# EAGLE library part XCV400ES_BG560 (library xilinx-xcv)
xcv400es_bg560 edit this description Auto generated by make-symbol-device-package-bsdl.ulp Rev. 26 Source: xcv400es_bg560.bsd
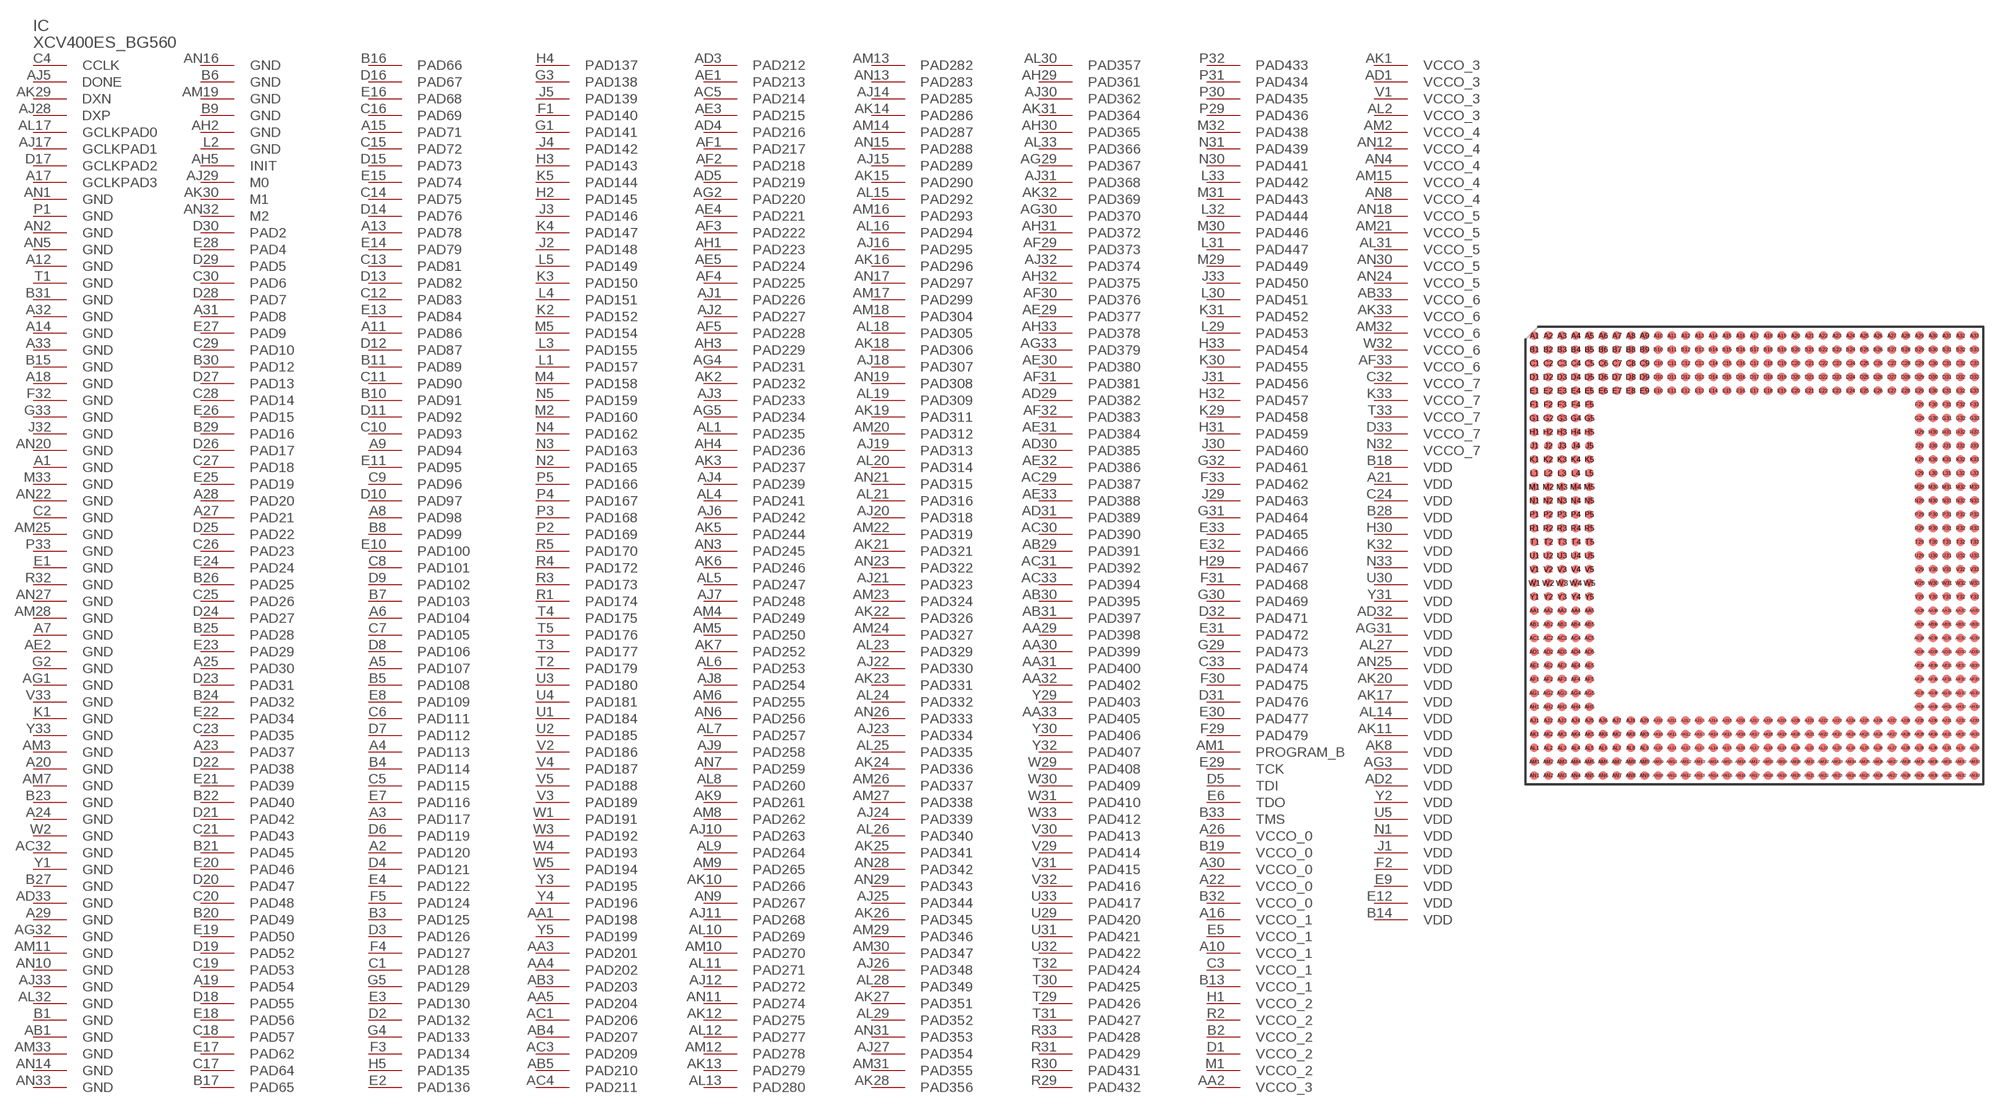
[diagram p103: symbol with the pads of BG560; footprint BG560]

Designator prefix IC

## XCV400ES_BG560  [BG560]
A1  GND  pwr
A2  PAD120
A3  PAD117
A4  PAD113
A5  PAD107
A6  PAD104
A7  GND  pwr
A8  PAD98
A9  PAD94
A10  VCCO_1  pwr
A11  PAD86
A12  GND  pwr
A13  PAD78
A14  GND  pwr
A15  PAD71
A16  VCCO_1  pwr
A17  GCLKPAD3  in
A18  GND  pwr
A19  PAD54
A20  GND  pwr
A21  VDD  pwr
A22  VCCO_0  pwr
A23  PAD37
A24  GND  pwr
A25  PAD30
A26  VCCO_0  pwr
A27  PAD21
A28  PAD20
A29  GND  pwr
A30  VCCO_0  pwr
A31  PAD8
A32  GND  pwr
A33  GND  pwr
AA1  PAD198
AA2  VCCO_3  pwr
AA3  PAD201
AA4  PAD202
AA5  PAD204
AA29  PAD398
AA30  PAD399
AA31  PAD400
AA32  PAD402
AA33  PAD405
AB1  GND  pwr
AB3  PAD203
AB4  PAD207
AB5  PAD210
AB29  PAD391
AB30  PAD395
AB31  PAD397
AB33  VCCO_6  pwr
AC1  PAD206
AC3  PAD209
AC4  PAD211
AC5  PAD214
AC29  PAD387
AC30  PAD390
AC31  PAD392
AC32  GND  pwr
AC33  PAD394
AD1  VCCO_3  pwr
AD2  VDD  pwr
AD3  PAD212
AD4  PAD216
AD5  PAD219
AD29  PAD382
AD30  PAD385
AD31  PAD389
AD32  VDD  pwr
AD33  GND  pwr
AE1  PAD213
AE2  GND  pwr
AE3  PAD215
AE4  PAD221
AE5  PAD224
AE29  PAD377
AE30  PAD380
AE31  PAD384
AE32  PAD386
AE33  PAD388
AF1  PAD217
AF2  PAD218
AF3  PAD222
AF4  PAD225
AF5  PAD228
AF29  PAD373
AF30  PAD376
AF31  PAD381
AF32  PAD383
AF33  VCCO_6  pwr
AG1  GND  pwr
AG2  PAD220
AG3  VDD  pwr
AG4  PAD231
AG5  PAD234
AG29  PAD367
AG30  PAD370
AG31  VDD  pwr
AG32  GND  pwr
AG33  PAD379
AH1  PAD223
AH2  GND  pwr
AH3  PAD229
AH4  PAD236
AH5  INIT
AH29  PAD361
AH30  PAD365
AH31  PAD372
AH32  PAD375
AH33  PAD378
AJ1  PAD226
AJ2  PAD227
AJ3  PAD233
AJ4  PAD239
AJ5  DONE
AJ6  PAD242
AJ7  PAD248
AJ8  PAD254
AJ9  PAD258
AJ10  PAD263
AJ11  PAD268
AJ12  PAD272
AJ14  PAD285
AJ15  PAD289
AJ16  PAD295
AJ17  GCLKPAD1  in
AJ18  PAD307
AJ19  PAD313
AJ20  PAD318
AJ21  PAD323
AJ22  PAD330
AJ23  PAD334
AJ24  PAD339
AJ25  PAD344
AJ26  PAD348
AJ27  PAD354
AJ28  DXP  pas
AJ29  M0  in
AJ30  PAD362
AJ31  PAD368
AJ32  PAD374
AJ33  GND  pwr
AK1  VCCO_3  pwr
AK2  PAD232
AK3  PAD237
AK5  PAD244
AK6  PAD246
AK7  PAD252
AK8  VDD  pwr
AK9  PAD261
AK10  PAD266
AK11  VDD  pwr
AK12  PAD275
AK13  PAD279
AK14  PAD286
AK15  PAD290
AK16  PAD296
AK17  VDD  pwr
AK18  PAD306
AK19  PAD311
AK20  VDD  pwr
AK21  PAD321
AK22  PAD326
AK23  PAD331
AK24  PAD336
AK25  PAD341
AK26  PAD345
AK27  PAD351
AK28  PAD356
AK29  DXN  pas
AK30  M1  in
AK31  PAD364
AK32  PAD369
AK33  VCCO_6  pwr
AL1  PAD235
AL2  VCCO_3  pwr
AL4  PAD241
AL5  PAD247
AL6  PAD253
AL7  PAD257
AL8  PAD260
AL9  PAD264
AL10  PAD269
AL11  PAD271
AL12  PAD277
AL13  PAD280
AL14  VDD  pwr
AL15  PAD292
AL16  PAD294
AL17  GCLKPAD0  in
AL18  PAD305
AL19  PAD309
AL20  PAD314
AL21  PAD316
AL23  PAD329
AL24  PAD332
AL25  PAD335
AL26  PAD340
AL27  VDD  pwr
AL28  PAD349
AL29  PAD352
AL30  PAD357
AL31  VCCO_5  pwr
AL32  GND  pwr
AL33  PAD366
AM1  PROGRAM_B  in
AM2  VCCO_4  pwr
AM3  GND  pwr
AM4  PAD249
AM5  PAD250
AM6  PAD255
AM7  GND  pwr
AM8  PAD262
AM9  PAD265
AM10  PAD270
AM11  GND  pwr
AM12  PAD278
AM13  PAD282
AM14  PAD287
AM15  VCCO_4  pwr
AM16  PAD293
AM17  PAD299
AM18  PAD304
AM19  GND  pwr
AM20  PAD312
AM21  VCCO_5  pwr
AM22  PAD319
AM23  PAD324
AM24  PAD327
AM25  GND  pwr
AM26  PAD337
AM27  PAD338
AM28  GND  pwr
AM29  PAD346
AM30  PAD347
AM31  PAD355
AM32  VCCO_6  pwr
AM33  GND  pwr
AN1  GND  pwr
AN2  GND  pwr
AN3  PAD245
AN4  VCCO_4  pwr
AN5  GND  pwr
AN6  PAD256
AN7  PAD259
AN8  VCCO_4  pwr
AN9  PAD267
AN10  GND  pwr
AN11  PAD274
AN12  VCCO_4  pwr
AN13  PAD283
AN14  GND  pwr
AN15  PAD288
AN16  GND  pwr
AN17  PAD297
AN18  VCCO_5  pwr
AN19  PAD308
AN20  GND  pwr
AN21  PAD315
AN22  GND  pwr
AN23  PAD322
AN24  VCCO_5  pwr
AN25  VDD  pwr
AN26  PAD333
AN27  GND  pwr
AN28  PAD342
AN29  PAD343
AN30  VCCO_5  pwr
AN31  PAD353
AN32  M2  in
AN33  GND  pwr
B1  GND  pwr
B2  VCCO_2  pwr
B3  PAD125
B4  PAD114
B5  PAD108
B6  GND  pwr
B7  PAD103
B8  PAD99
B9  GND  pwr
B10  PAD91
B11  PAD89
B13  VCCO_1  pwr
B14  VDD  pwr
B15  GND  pwr
B16  PAD66
B17  PAD65
B18  VDD  pwr
B19  VCCO_0  pwr
B20  PAD49
B21  PAD45
B22  PAD40
B23  GND  pwr
B24  PAD32
B25  PAD28
B26  PAD25
B27  GND  pwr
B28  VDD  pwr
B29  PAD16
B30  PAD12
B31  GND  pwr
B32  VCCO_0  pwr
B33  TMS  in
C1  PAD128
C2  GND  pwr
C3  VCCO_1  pwr
C4  CCLK
C5  PAD115
C6  PAD111
C7  PAD105
C8  PAD101
C9  PAD96
C10  PAD93
C11  PAD90
C12  PAD83
C13  PAD81
C14  PAD75
C15  PAD72
C16  PAD69
C17  PAD64
C18  PAD57
C19  PAD53
C20  PAD48
C21  PAD43
C23  PAD35
C24  VDD  pwr
C25  PAD26
C26  PAD23
C27  PAD18
C28  PAD14
C29  PAD10
C30  PAD6
C32  VCCO_7  pwr
C33  PAD474
D1  VCCO_2  pwr
D2  PAD132
D3  PAD126
D4  PAD121
D5  TDI  in
D6  PAD119
D7  PAD112
D8  PAD106
D9  PAD102
D10  PAD97
D11  PAD92
D12  PAD87
D13  PAD82
D14  PAD76
D15  PAD73
D16  PAD67
D17  GCLKPAD2  in
D18  PAD55
D19  PAD52
D20  PAD47
D21  PAD42
D22  PAD38
D23  PAD31
D24  PAD27
D25  PAD22
D26  PAD17
D27  PAD13
D28  PAD7
D29  PAD5
D30  PAD2
D31  PAD476
D32  PAD471
D33  VCCO_7  pwr
E1  GND  pwr
E2  PAD136
E3  PAD130
E4  PAD122
E5  VCCO_1  pwr
E6  TDO  out
E7  PAD116
E8  PAD109
E9  VDD  pwr
E10  PAD100
E11  PAD95
E12  VDD  pwr
E13  PAD84
E14  PAD79
E15  PAD74
E16  PAD68
E17  PAD62
E18  PAD56
E19  PAD50
E20  PAD46
E21  PAD39
E22  PAD34
E23  PAD29
E24  PAD24
E25  PAD19
E26  PAD15
E27  PAD9
E28  PAD4
E29  TCK  in
E30  PAD477
E31  PAD472
E32  PAD466
E33  PAD465
F1  PAD140
F2  VDD  pwr
F3  PAD134
F4  PAD127
F5  PAD124
F29  PAD479
F30  PAD475
F31  PAD468
F32  GND  pwr
F33  PAD462
G1  PAD141
G2  GND  pwr
G3  PAD138
G4  PAD133
G5  PAD129
G29  PAD473
G30  PAD469
G31  PAD464
G32  PAD461
G33  GND  pwr
H1  VCCO_2  pwr
H2  PAD145
H3  PAD143
H4  PAD137
H5  PAD135
H29  PAD467
H30  VDD  pwr
H31  PAD459
H32  PAD457
H33  PAD454
J1  VDD  pwr
J2  PAD148
J3  PAD146
J4  PAD142
J5  PAD139
J29  PAD463
J30  PAD460
J31  PAD456
J32  GND  pwr
J33  PAD450
K1  GND  pwr
K2  PAD152
K3  PAD150
K4  PAD147
K5  PAD144
K29  PAD458
K30  PAD455
K31  PAD452
K32  VDD  pwr
K33  VCCO_7  pwr
L1  PAD157
L2  GND  pwr
L3  PAD155
L4  PAD151
L5  PAD149
L29  PAD453
L30  PAD451
L31  PAD447
L32  PAD444
L33  PAD442
M1  VCCO_2  pwr
M2  PAD160
M4  PAD158
M5  PAD154
M29  PAD449
M30  PAD446
M31  PAD443
M32  PAD438
M33  GND  pwr
N1  VDD  pwr
N2  PAD165
N3  PAD163
N4  PAD162
N5  PAD159
N30  PAD441
N31  PAD439
N32  VCCO_7  pwr
N33  VDD  pwr
P1  GND  pwr
P2  PAD169
P3  PAD168
P4  PAD167
P5  PAD166
P29  PAD436
P30  PAD435
P31  PAD434
P32  PAD433
P33  GND  pwr
R1  PAD174
R2  VCCO_2  pwr
R3  PAD173
R4  PAD172
R5  PAD170
R29  PAD432
R30  PAD431
R31  PAD429
R32  GND  pwr
R33  PAD428
T1  GND  pwr
T2  PAD179
T3  PAD177
T4  PAD175
T5  PAD176
T29  PAD426
T30  PAD425
T31  PAD427
T32  PAD424
T33  VCCO_7  pwr
U1  PAD184
U2  PAD185
U3  PAD180
U4  PAD181
U5  VDD  pwr
U29  PAD420
U30  VDD  pwr
U31  PAD421
U32  PAD422
U33  PAD417
V1  VCCO_3  pwr
V2  PAD186
V3  PAD189
V4  PAD187
V5  PAD188
V29  PAD414
V30  PAD413
V31  PAD415
V32  PAD416
V33  GND  pwr
W1  PAD191
W2  GND  pwr
W3  PAD192
W4  PAD193
W5  PAD194
W29  PAD408
W30  PAD409
W31  PAD410
W32  VCCO_6  pwr
W33  PAD412
Y1  GND  pwr
Y2  VDD  pwr
Y3  PAD195
Y4  PAD196
Y5  PAD199
Y29  PAD403
Y30  PAD406
Y31  VDD  pwr
Y32  PAD407
Y33  GND  pwr

## Footprint BG560 (pad centres in mm)
Metal BGA (BG560) Auto generated by make-symbol-device-package-bsdl.ulp Rev. 26 Source: xcv1000_bg560_1532.bsd; bg560.pdf
smd 0.8 x 0.8: A1 -20.32,20.32; A2 -19.05,20.32; A3 -17.78,20.32; A4 -16.51,20.32; A5 -15.24,20.32; A6 -13.97,20.32; A7 -12.7,20.32; A8 -11.43,20.32; A9 -10.16,20.32; A10 -8.89,20.32; A11 -7.62,20.32; A12 -6.35,20.32; A13 -5.08,20.32; A14 -3.81,20.32; A15 -2.54,20.32; A16 -1.27,20.32; A17 0,20.32; A18 1.27,20.32; A19 2.54,20.32; A20 3.81,20.32; A21 5.08,20.32; A22 6.35,20.32; A23 7.62,20.32; A24 8.89,20.32; A25 10.16,20.32; A26 11.43,20.32; A27 12.7,20.32; A28 13.97,20.32; A29 15.24,20.32; A30 16.51,20.32; A31 17.78,20.32; A32 19.05,20.32; A33 20.32,20.32; AA1 -20.32,-5.08; AA2 -19.05,-5.08; AA3 -17.78,-5.08; AA4 -16.51,-5.08; AA5 -15.24,-5.08; AA29 15.24,-5.08; AA30 16.51,-5.08; AA31 17.78,-5.08; AA32 19.05,-5.08; AA33 20.32,-5.08; AB1 -20.32,-6.35; AB2 -19.05,-6.35; AB3 -17.78,-6.35; AB4 -16.51,-6.35; AB5 -15.24,-6.35; AB29 15.24,-6.35; AB30 16.51,-6.35; AB31 17.78,-6.35; AB32 19.05,-6.35; AB33 20.32,-6.35; AC1 -20.32,-7.62; AC2 -19.05,-7.62; AC3 -17.78,-7.62; AC4 -16.51,-7.62; AC5 -15.24,-7.62; AC29 15.24,-7.62; AC30 16.51,-7.62; AC31 17.78,-7.62; AC32 19.05,-7.62; AC33 20.32,-7.62; AD1 -20.32,-8.89; AD2 -19.05,-8.89; AD3 -17.78,-8.89; AD4 -16.51,-8.89; AD5 -15.24,-8.89; AD29 15.24,-8.89; AD30 16.51,-8.89; AD31 17.78,-8.89; AD32 19.05,-8.89; AD33 20.32,-8.89; AE1 -20.32,-10.16; AE2 -19.05,-10.16; AE3 -17.78,-10.16; AE4 -16.51,-10.16; AE5 -15.24,-10.16; AE29 15.24,-10.16; AE30 16.51,-10.16; AE31 17.78,-10.16; AE32 19.05,-10.16; AE33 20.32,-10.16; AF1 -20.32,-11.43; AF2 -19.05,-11.43; AF3 -17.78,-11.43; AF4 -16.51,-11.43; AF5 -15.24,-11.43; AF29 15.24,-11.43; AF30 16.51,-11.43; AF31 17.78,-11.43; AF32 19.05,-11.43; AF33 20.32,-11.43; AG1 -20.32,-12.7; AG2 -19.05,-12.7; AG3 -17.78,-12.7; AG4 -16.51,-12.7; AG5 -15.24,-12.7; AG29 15.24,-12.7; AG30 16.51,-12.7; AG31 17.78,-12.7; AG32 19.05,-12.7; AG33 20.32,-12.7; AH1 -20.32,-13.97; AH2 -19.05,-13.97; AH3 -17.78,-13.97; AH4 -16.51,-13.97; AH5 -15.24,-13.97; AH29 15.24,-13.97; AH30 16.51,-13.97; AH31 17.78,-13.97; AH32 19.05,-13.97; AH33 20.32,-13.97; AJ1 -20.32,-15.24; AJ2 -19.05,-15.24; AJ3 -17.78,-15.24; AJ4 -16.51,-15.24; AJ5 -15.24,-15.24; AJ6 -13.97,-15.24; AJ7 -12.7,-15.24; AJ8 -11.43,-15.24; AJ9 -10.16,-15.24; AJ10 -8.89,-15.24; AJ11 -7.62,-15.24; AJ12 -6.35,-15.24; AJ13 -5.08,-15.24; AJ14 -3.81,-15.24; AJ15 -2.54,-15.24; AJ16 -1.27,-15.24; AJ17 0,-15.24; AJ18 1.27,-15.24; AJ19 2.54,-15.24; AJ20 3.81,-15.24; AJ21 5.08,-15.24; AJ22 6.35,-15.24; AJ23 7.62,-15.24; AJ24 8.89,-15.24; AJ25 10.16,-15.24; AJ26 11.43,-15.24; AJ27 12.7,-15.24; AJ28 13.97,-15.24; AJ29 15.24,-15.24; AJ30 16.51,-15.24; AJ31 17.78,-15.24; AJ32 19.05,-15.24; AJ33 20.32,-15.24; AK1 -20.32,-16.51; AK2 -19.05,-16.51; AK3 -17.78,-16.51; AK4 -16.51,-16.51; AK5 -15.24,-16.51; AK6 -13.97,-16.51; AK7 -12.7,-16.51; AK8 -11.43,-16.51; AK9 -10.16,-16.51; AK10 -8.89,-16.51; AK11 -7.62,-16.51; AK12 -6.35,-16.51; AK13 -5.08,-16.51; AK14 -3.81,-16.51; AK15 -2.54,-16.51; AK16 -1.27,-16.51; AK17 0,-16.51; AK18 1.27,-16.51; AK19 2.54,-16.51; AK20 3.81,-16.51; AK21 5.08,-16.51; AK22 6.35,-16.51; AK23 7.62,-16.51; AK24 8.89,-16.51; AK25 10.16,-16.51; AK26 11.43,-16.51; AK27 12.7,-16.51; AK28 13.97,-16.51; AK29 15.24,-16.51; AK30 16.51,-16.51; AK31 17.78,-16.51; AK32 19.05,-16.51; AK33 20.32,-16.51; AL1 -20.32,-17.78; AL2 -19.05,-17.78; AL3 -17.78,-17.78; AL4 -16.51,-17.78; AL5 -15.24,-17.78; AL6 -13.97,-17.78; AL7 -12.7,-17.78; AL8 -11.43,-17.78; AL9 -10.16,-17.78; AL10 -8.89,-17.78; AL11 -7.62,-17.78; AL12 -6.35,-17.78; AL13 -5.08,-17.78; AL14 -3.81,-17.78; AL15 -2.54,-17.78; AL16 -1.27,-17.78; AL17 0,-17.78; AL18 1.27,-17.78; AL19 2.54,-17.78; AL20 3.81,-17.78; AL21 5.08,-17.78; AL22 6.35,-17.78; AL23 7.62,-17.78; AL24 8.89,-17.78; AL25 10.16,-17.78; AL26 11.43,-17.78; AL27 12.7,-17.78; AL28 13.97,-17.78; AL29 15.24,-17.78; AL30 16.51,-17.78; AL31 17.78,-17.78; AL32 19.05,-17.78; AL33 20.32,-17.78; AM1 -20.32,-19.05; AM2 -19.05,-19.05; AM3 -17.78,-19.05; AM4 -16.51,-19.05; AM5 -15.24,-19.05; AM6 -13.97,-19.05; AM7 -12.7,-19.05; AM8 -11.43,-19.05; AM9 -10.16,-19.05; AM10 -8.89,-19.05; AM11 -7.62,-19.05; AM12 -6.35,-19.05; AM13 -5.08,-19.05; AM14 -3.81,-19.05; AM15 -2.54,-19.05; AM16 -1.27,-19.05; AM17 0,-19.05; AM18 1.27,-19.05; AM19 2.54,-19.05; AM20 3.81,-19.05; AM21 5.08,-19.05; AM22 6.35,-19.05; AM23 7.62,-19.05; AM24 8.89,-19.05; AM25 10.16,-19.05; AM26 11.43,-19.05; AM27 12.7,-19.05; AM28 13.97,-19.05; AM29 15.24,-19.05; AM30 16.51,-19.05; AM31 17.78,-19.05; AM32 19.05,-19.05; AM33 20.32,-19.05; AN1 -20.32,-20.32; AN2 -19.05,-20.32; AN3 -17.78,-20.32; AN4 -16.51,-20.32; AN5 -15.24,-20.32; AN6 -13.97,-20.32; AN7 -12.7,-20.32; AN8 -11.43,-20.32; AN9 -10.16,-20.32; AN10 -8.89,-20.32; AN11 -7.62,-20.32; AN12 -6.35,-20.32; AN13 -5.08,-20.32; AN14 -3.81,-20.32; AN15 -2.54,-20.32; AN16 -1.27,-20.32; AN17 0,-20.32; AN18 1.27,-20.32; AN19 2.54,-20.32; AN20 3.81,-20.32; AN21 5.08,-20.32; AN22 6.35,-20.32; AN23 7.62,-20.32; AN24 8.89,-20.32; AN25 10.16,-20.32; AN26 11.43,-20.32; AN27 12.7,-20.32; AN28 13.97,-20.32; AN29 15.24,-20.32; AN30 16.51,-20.32; AN31 17.78,-20.32; AN32 19.05,-20.32; AN33 20.32,-20.32; B1 -20.32,19.05; B2 -19.05,19.05; B3 -17.78,19.05; B4 -16.51,19.05; B5 -15.24,19.05; B6 -13.97,19.05; B7 -12.7,19.05; B8 -11.43,19.05; B9 -10.16,19.05; B10 -8.89,19.05; B11 -7.62,19.05; B12 -6.35,19.05; B13 -5.08,19.05; B14 -3.81,19.05; B15 -2.54,19.05; B16 -1.27,19.05; B17 0,19.05; B18 1.27,19.05; B19 2.54,19.05; B20 3.81,19.05; B21 5.08,19.05; B22 6.35,19.05; B23 7.62,19.05; B24 8.89,19.05; B25 10.16,19.05; B26 11.43,19.05; B27 12.7,19.05; B28 13.97,19.05; B29 15.24,19.05; B30 16.51,19.05; B31 17.78,19.05; B32 19.05,19.05; B33 20.32,19.05; C1 -20.32,17.78; C2 -19.05,17.78; C3 -17.78,17.78; C4 -16.51,17.78; C5 -15.24,17.78; C6 -13.97,17.78; C7 -12.7,17.78; C8 -11.43,17.78; C9 -10.16,17.78; C10 -8.89,17.78; C11 -7.62,17.78; C12 -6.35,17.78; C13 -5.08,17.78; C14 -3.81,17.78; C15 -2.54,17.78; C16 -1.27,17.78; C17 0,17.78; C18 1.27,17.78; C19 2.54,17.78; C20 3.81,17.78; C21 5.08,17.78; C22 6.35,17.78; C23 7.62,17.78; C24 8.89,17.78; C25 10.16,17.78; C26 11.43,17.78; C27 12.7,17.78; C28 13.97,17.78; C29 15.24,17.78; C30 16.51,17.78; C31 17.78,17.78; C32 19.05,17.78; C33 20.32,17.78; D1 -20.32,16.51; D2 -19.05,16.51; D3 -17.78,16.51; D4 -16.51,16.51; D5 -15.24,16.51; D6 -13.97,16.51; D7 -12.7,16.51; D8 -11.43,16.51; D9 -10.16,16.51; D10 -8.89,16.51; D11 -7.62,16.51; D12 -6.35,16.51; D13 -5.08,16.51; D14 -3.81,16.51; D15 -2.54,16.51; D16 -1.27,16.51; D17 0,16.51; D18 1.27,16.51; D19 2.54,16.51; D20 3.81,16.51; D21 5.08,16.51; D22 6.35,16.51; D23 7.62,16.51; D24 8.89,16.51; D25 10.16,16.51; D26 11.43,16.51; D27 12.7,16.51; D28 13.97,16.51; D29 15.24,16.51; D30 16.51,16.51; D31 17.78,16.51; D32 19.05,16.51; D33 20.32,16.51; E1 -20.32,15.24; E2 -19.05,15.24; E3 -17.78,15.24; E4 -16.51,15.24; E5 -15.24,15.24; E6 -13.97,15.24; E7 -12.7,15.24; E8 -11.43,15.24; E9 -10.16,15.24; E10 -8.89,15.24; E11 -7.62,15.24; E12 -6.35,15.24; E13 -5.08,15.24; E14 -3.81,15.24; E15 -2.54,15.24; E16 -1.27,15.24; E17 0,15.24; E18 1.27,15.24; E19 2.54,15.24; E20 3.81,15.24; E21 5.08,15.24; E22 6.35,15.24; E23 7.62,15.24; E24 8.89,15.24; E25 10.16,15.24; E26 11.43,15.24; E27 12.7,15.24; E28 13.97,15.24; E29 15.24,15.24; E30 16.51,15.24; E31 17.78,15.24; E32 19.05,15.24; E33 20.32,15.24; F1 -20.32,13.97; F2 -19.05,13.97; F3 -17.78,13.97; F4 -16.51,13.97; F5 -15.24,13.97; F29 15.24,13.97; F30 16.51,13.97; F31 17.78,13.97; F32 19.05,13.97; F33 20.32,13.97; G1 -20.32,12.7; G2 -19.05,12.7; G3 -17.78,12.7; G4 -16.51,12.7; G5 -15.24,12.7; G29 15.24,12.7; G30 16.51,12.7; G31 17.78,12.7; G32 19.05,12.7; G33 20.32,12.7; H1 -20.32,11.43; H2 -19.05,11.43; H3 -17.78,11.43; H4 -16.51,11.43; H5 -15.24,11.43; H29 15.24,11.43; H30 16.51,11.43; H31 17.78,11.43; H32 19.05,11.43; H33 20.32,11.43; J1 -20.32,10.16; J2 -19.05,10.16; J3 -17.78,10.16; J4 -16.51,10.16; J5 -15.24,10.16; J29 15.24,10.16; J30 16.51,10.16; J31 17.78,10.16; J32 19.05,10.16; J33 20.32,10.16; K1 -20.32,8.89; K2 -19.05,8.89; K3 -17.78,8.89; K4 -16.51,8.89; K5 -15.24,8.89; K29 15.24,8.89; K30 16.51,8.89; K31 17.78,8.89; K32 19.05,8.89; K33 20.32,8.89; L1 -20.32,7.62; L2 -19.05,7.62; L3 -17.78,7.62; L4 -16.51,7.62; L5 -15.24,7.62; L29 15.24,7.62; L30 16.51,7.62; L31 17.78,7.62; L32 19.05,7.62; L33 20.32,7.62; M1 -20.32,6.35; M2 -19.05,6.35; M3 -17.78,6.35; M4 -16.51,6.35; M5 -15.24,6.35; M29 15.24,6.35; M30 16.51,6.35; M31 17.78,6.35; M32 19.05,6.35; M33 20.32,6.35; N1 -20.32,5.08; N2 -19.05,5.08; N3 -17.78,5.08; N4 -16.51,5.08; N5 -15.24,5.08; N29 15.24,5.08; N30 16.51,5.08; N31 17.78,5.08; N32 19.05,5.08; N33 20.32,5.08; P1 -20.32,3.81; P2 -19.05,3.81; P3 -17.78,3.81; P4 -16.51,3.81; P5 -15.24,3.81; P29 15.24,3.81; P30 16.51,3.81; P31 17.78,3.81; P32 19.05,3.81; P33 20.32,3.81; R1 -20.32,2.54; R2 -19.05,2.54; R3 -17.78,2.54; R4 -16.51,2.54; R5 -15.24,2.54; R29 15.24,2.54; R30 16.51,2.54; R31 17.78,2.54; R32 19.05,2.54; R33 20.32,2.54; T1 -20.32,1.27; T2 -19.05,1.27; T3 -17.78,1.27; T4 -16.51,1.27; T5 -15.24,1.27; T29 15.24,1.27; T30 16.51,1.27; T31 17.78,1.27; T32 19.05,1.27; T33 20.32,1.27; U1 -20.32,0; U2 -19.05,0; U3 -17.78,0; U4 -16.51,0; U5 -15.24,0; U29 15.24,0; U30 16.51,0; U31 17.78,0; U32 19.05,0; U33 20.32,0; V1 -20.32,-1.27; V2 -19.05,-1.27; V3 -17.78,-1.27; V4 -16.51,-1.27; V5 -15.24,-1.27; V29 15.24,-1.27; V30 16.51,-1.27; V31 17.78,-1.27; V32 19.05,-1.27; V33 20.32,-1.27; W1 -20.32,-2.54; W2 -19.05,-2.54; W3 -17.78,-2.54; W4 -16.51,-2.54; W5 -15.24,-2.54; W29 15.24,-2.54; W30 16.51,-2.54; W31 17.78,-2.54; W32 19.05,-2.54; W33 20.32,-2.54; Y1 -20.32,-3.81; Y2 -19.05,-3.81; Y3 -17.78,-3.81; Y4 -16.51,-3.81; Y5 -15.24,-3.81; Y29 15.24,-3.81; Y30 16.51,-3.81; Y31 17.78,-3.81; Y32 19.05,-3.81; Y33 20.32,-3.81